# Altium schematic symbol library LM74610-Q1.SchLib: 1 symbol
Pins are listed as number, name and electrical type; pins without a type are passive.

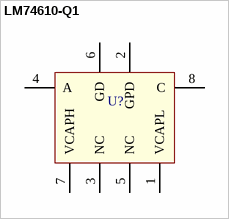
[diagram p0: symbol LM74610-Q1]

## LM74610-Q1
designator U?
Smart Diode Controller
footprint TSSOP-8 (Plasti Small-Outline Package)
pins: 1 VCAPL, 2 GPD, 3 NC, 4 A, 5 NC, 6 GD, 7 VCAPH, 8 C